# Altium footprint library QFN-20_UFD_LIT-M.PcbLib: 1 footprints
Each footprint in its own frame and in the unit in brackets; x right, y up, seen from the top. Pads: shape width x height; smd on the part's side, far side on the other; paste and mask are expansions set on the pad; w line width, h text height; cw(c..) or ccw(c..) is an arc to the next point about the centre after c.
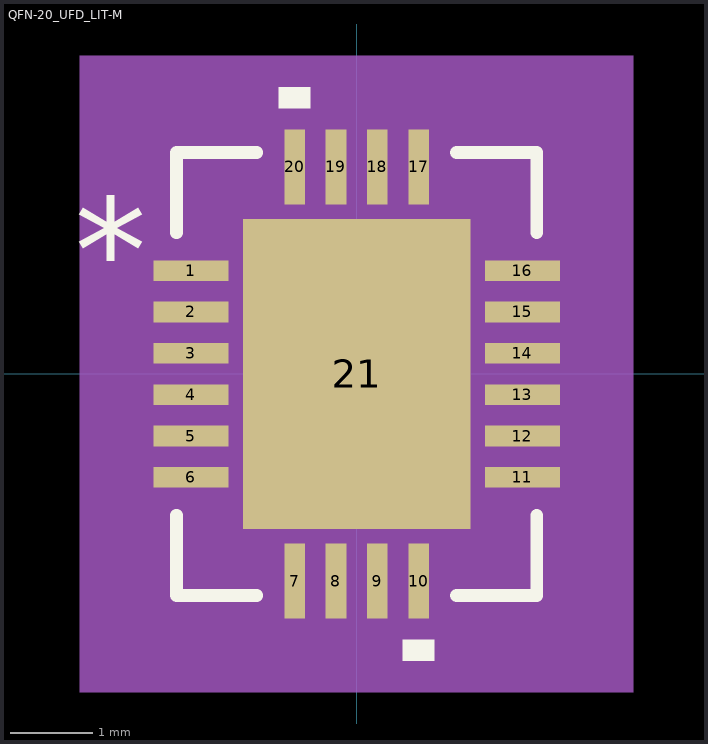
[diagram p0: the footprint, top view; thin cyan lines are the x and y axes]

## QFN-20_UFD_LIT-M [mm]
pads (21):
  rect 0.906x0.249 smd paste+0 mask+0: 1(-2.003,1.25) 2(-2.003,0.75) 3(-2.003,0.25) 4(-2.003,-0.25) 5(-2.003,-0.75) 6(-2.003,-1.25) 11(2.003,-1.25) 12(2.003,-0.75) 13(2.003,-0.25) 14(2.003,0.25) 15(2.003,0.75) 16(2.003,1.25)
  rect 0.249x0.906 smd paste+0 mask+0: 7(-0.75,-2.503) 8(-0.25,-2.503) 9(0.25,-2.503) 10(0.75,-2.503) 17(0.75,2.503) 18(0.25,2.503) 19(-0.25,2.503) 20(-0.75,2.503)
  rect 2.75x3.75 smd paste-1.862 mask+0: 21(0,0)
Top Overlay:
  region: -0.56,3.21 -0.941,3.21 -0.941,3.464 -0.56,3.464
  region: 0.941,-3.21 0.56,-3.21 0.56,-3.464 0.941,-3.464
  lines w0.152: -2.177,-1.707 -2.177,-2.677 -1.207,-2.677 ; -2.177,1.707 -2.177,2.677 -1.207,2.677 ; 1.207,-2.677 2.177,-2.677 2.177,-1.707 ; 1.207,2.677 2.177,2.677 2.177,1.707
  text "*" at -3.409,0.865 h1.27
Top Paste:
  region: 1.275,-0.1 0.1,-0.1 0.1,-1.775 1.275,-1.775
  region: 1.275,1.775 0.1,1.775 0.1,0.1 1.275,0.1
  region: -0.1,-0.1 -1.275,-0.1 -1.275,-1.775 -0.1,-1.775
  region: -0.1,1.775 -1.275,1.775 -1.275,0.1 -0.1,0.1
Mechanical 5:
  region: 3.345,-3.845 -3.345,-3.845 -3.345,3.845 3.345,3.845
Mechanical 13:
  lines w0.025: -2.05,1.28 -0.78,2.55 ; -2.05,-2.55 -2.05,2.55 2.05,2.55 2.05,-2.55 -2.05,-2.55 ; -2.05,-1.4 -2.05,-1.1 -2.05,-1.4 ; -2.05,-0.9 -2.05,-0.6 -2.05,-0.9 ; -2.05,-0.4 -2.05,-0.1 -2.05,-0.4 ; -2.05,0.1 -2.05,0.4 -2.05,0.1 ; -2.05,0.6 -2.05,0.9 -2.05,0.6 ; -2.05,1.1 -2.05,1.4 -2.05,1.1 ; -0.9,-2.55 -0.6,-2.55 -0.9,-2.55 ; -0.9,2.55 -0.6,2.55 -0.9,2.55 ; -0.4,-2.55 -0.1,-2.55 -0.4,-2.55 ; -0.4,2.55 -0.1,2.55 -0.4,2.55 ; 0.1,-2.55 0.4,-2.55 0.1,-2.55 ; 0.1,2.55 0.4,2.55 0.1,2.55 ; 0.6,-2.55 0.9,-2.55 0.6,-2.55 ; 0.6,2.55 0.9,2.55 0.6,2.55 ; 2.05,-1.4 2.05,-1.1 2.05,-1.4 ; 2.05,-0.9 2.05,-0.6 2.05,-0.9 ; 2.05,-0.4 2.05,-0.1 2.05,-0.4 ; 2.05,0.1 2.05,0.4 2.05,0.1 ; 2.05,0.6 2.05,0.9 2.05,0.6 ; 2.05,1.1 2.05,1.4 2.05,1.1
  text "*" at -1.867,0.865 h1.27
Mechanical 15:
  region: -1.383,-3.058 -2.558,-3.058 -2.558,-1.883 -2.964,-1.883 -2.964,1.883 -2.558,1.883 -2.558,3.058 -1.383,3.058 -1.383,3.464 1.383,3.464 1.383,3.058 2.558,3.058 2.558,1.883 2.964,1.883 2.964,-1.883 2.558,-1.883 2.558,-3.058 1.383,-3.058 1.383,-3.464 -1.383,-3.464
  lines w0.152: -2.964,-1.883 -2.964,1.883 -2.558,1.883 -2.558,3.058 -1.383,3.058 -1.383,3.464 1.383,3.464 1.383,3.058 2.558,3.058 2.558,1.883 2.964,1.883 2.964,-1.883 2.558,-1.883 2.558,-3.058 1.383,-3.058 1.383,-3.464 -1.383,-3.464 -1.383,-3.058 -2.558,-3.058 -2.558,-1.883 -2.964,-1.883
3D body "QFN-20_UFD_LIT.step": height 0.8, standoff 0, extent -2.05,-2.55 2.05,2.55
3D body: height 0.25, standoff 0, extent 0,0 0.254,0.254